# EAGLE library part MCP73842-840I/UN (library Microchip-MCP73842-840I_UN)
IC,Dual series cells charge controller with temperature monitor,8.4V,MSOP-10
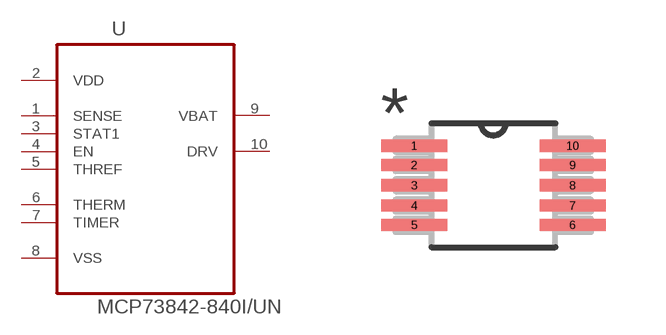
[diagram p0: symbol with the pads of SOP50P490X110-10N; footprint SOP50P490X110-10N]

Designator prefix U

## MCP73842-840I/UN (MPN: MCP73842-840I/UN; OC_FARNELL: 1852162; OC_NEWARK: 68H9436; PACKAGE: MSOP-10; SUPPLIER: Microchip)  [SOP50P490X110-10N]
1  SENSE  in
2  VDD  pwr
3  STAT1  in
4  EN  in
5  THREF  in
6  THERM  in
7  TIMER  in
8  VSS  pwr
9  VBAT  in
10  DRV  out

## Footprint SOP50P490X110-10N (pad centres in mm)
smd 1.651 x 0.305: 1 -1.981,0.991; 2 -1.981,0.508; 3 -1.981,0; 4 -1.981,-0.508; 5 -1.981,-0.991; 6 1.981,-0.991; 7 1.981,-0.508; 8 1.981,0; 9 1.981,0.508; 10 1.981,0.991